# EAGLE library part TL2575HV-KTT (library texas)
SWITCHING VOLTAGE REGULATORS 1-A SIMPLE STEP-DOWN
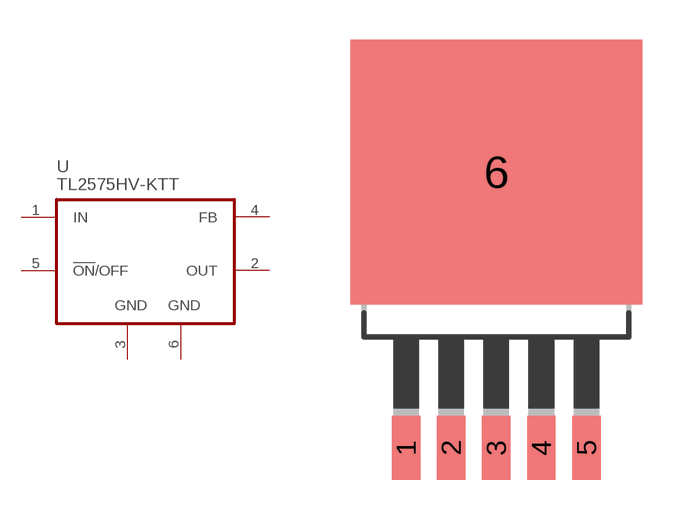
[diagram p52: symbol with the pads of TO263-5; footprint TO263-5]

Designator prefix U

## TL2575HV-KTT  [TO263-5]
1  IN
2  OUT
3  GND
4  FB
5  !ON!/OFF
6  GND

## Footprint TO263-5 (pad centres in mm)
TO-263
smd 1.067 x 2.413: 1 -3.404,-8.791; 2 -1.702,-8.791; 3 0,-8.791; 4 1.702,-8.791; 5 3.404,-8.791
smd 11 x 10: 6 0,1.61